# Altium schematic symbol library Encoder.SchLib: 1 symbol
Pins are listed as number, name and electrical type; pins without a type are passive.

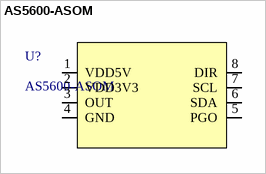
[diagram p0: symbol AS5600-ASOM]

## AS5600-ASOM
designator U?
SENSOR ANGLE 360DEG SMD; Mfr_Name: ams OSRAM; Manufacturer_Part_Number: AS5600L-ASOM; Copyright: Copyright (C) 2023 Ultra Librarian. All rights reserved.; RefDes: RefDes; Type: DEV
footprint AS5600L-ASOM_AMS
pins: 1 VDD5V, 2 VDD3V3, 3 OUT, 4 GND, 5 PGO, 6 SDA, 7 SCL, 8 DIR